# EAGLE library part 690367281076 (library Wurth_Elektronik2)
WR-MM Female SMT Connector with Polarization, 10 Pins=>Code : Con_BTB_MM_Female_SMT_690367281076 <http://katalog.we-online.de/media/thumbs2/eican/thb_Con_BTB_MM_Female_SMT_69036728xx76_pf2.jpg> Details see: http://katalog.we-online.de/en/em/6903_6728_xx_76 Created 2014-06-04, Karrer Zheng 2014 (C) Würth Elektronik
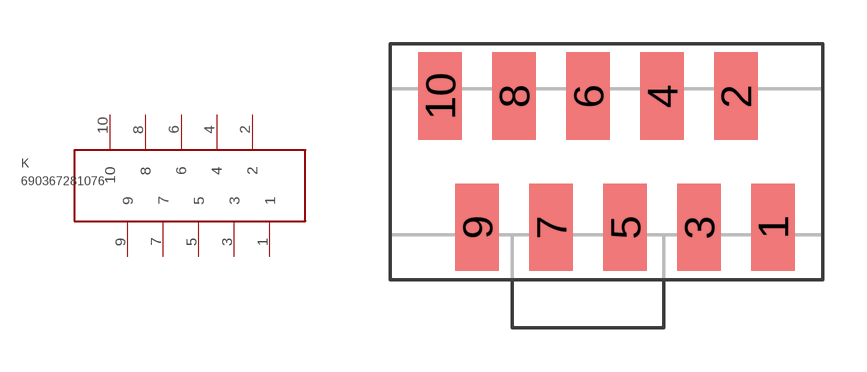
[diagram p367: symbol with the pads of 690367281076; footprint 690367281076]

Designator prefix K

## 690367281076  [690367281076]
1  1  pas
2  2  pas
3  3  pas
4  4  pas
5  5  pas
6  6  pas
7  7  pas
8  8  pas
9  9  pas
10  10  pas

## Footprint 690367281076 (pad centres in mm)
WR-MM Female SMT Connector with Polarization, 10 pins
smd 1.5 x 3: 1 5.08,-2.25; 2 3.81,2.25; 3 2.54,-2.25; 4 1.27,2.25; 5 0,-2.25; 6 -1.27,2.25; 7 -2.54,-2.25; 8 -3.81,2.25; 9 -5.08,-2.25; 10 -6.35,2.25